# Altium footprint library PCB_SDR.PcbLib: 49 footprints (part 4 of 4)
Each footprint in its own frame and in the unit in brackets; x right, y up, seen from the top. Pads: shape width x height; smd on the part's side, far side on the other; paste and mask are expansions set on the pad; w line width, h text height; cw(c..) or ccw(c..) is an arc to the next point about the centre after c.
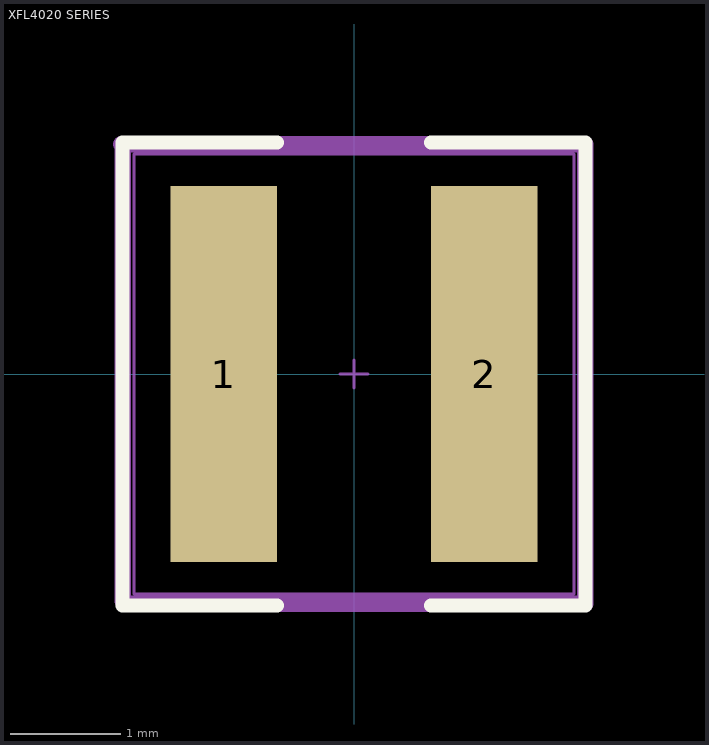
[diagram p3: the footprint, top view; thin cyan lines are the x and y axes]

## XFL4020 SERIES [mil]
pads (2):
  rect 38x134 smd: 1(-46.5,0) 2(46.5,0)
Top Overlay:
  lines w5: -27.5,-82.5 -82.5,-82.5 -82.5,82.5 -27.5,82.5 ; 27.5,-82.5 82.5,-82.5 82.5,82.5 27.5,82.5
Mechanical 13:
  lines w1: -5,0 5,0 ; 0,-5 0,5
Mechanical 14:
  lines w1: -78.5,-78.5 78.5,-78.5 78.5,78.5 -78.5,78.5 -78.5,-78.5
Mechanical 16:
  lines w5.91: -83,82 82.5,82 82.5,-82 -81.5,-82 ; -82.5,-81 -82.5,81.5
  lines w10: -47.43,55.49 cw(c-51,56) -47.39,56
Mechanical 29:
  text ".Designator" at -35,-18 h40
3D body: height 83, standoff 0, extent -78.5,-78.5 78.5,78.5